# EAGLE library part MCU_STM32F070RBT6 (library akita)
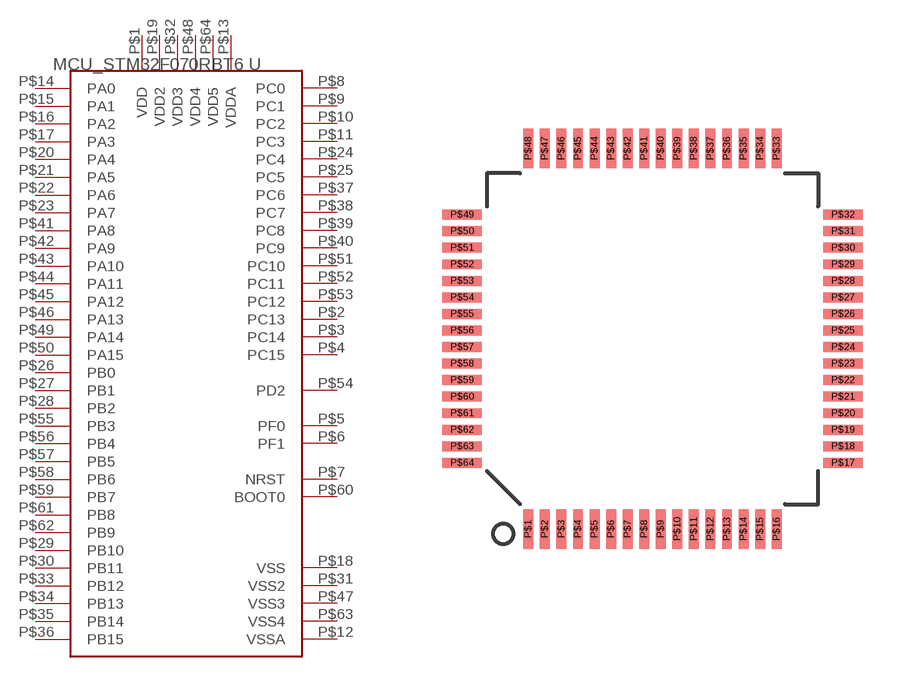
[diagram p89: symbol with the pads of LQFP64; footprint LQFP64]

Designator prefix U

## MCU_STM32F070RBT6  [LQFP64]
P$1  VDD
P$2  PC13
P$3  PC14
P$4  PC15
P$5  PF0
P$6  PF1
P$7  NRST
P$8  PC0
P$9  PC1
P$10  PC2
P$11  PC3
P$12  VSSA
P$13  VDDA
P$14  PA0
P$15  PA1
P$16  PA2
P$17  PA3
P$18  VSS
P$19  VDD2
P$20  PA4
P$21  PA5
P$22  PA6
P$23  PA7
P$24  PC4
P$25  PC5
P$26  PB0
P$27  PB1
P$28  PB2
P$29  PB10
P$30  PB11
P$31  VSS2
P$32  VDD3
P$33  PB12
P$34  PB13
P$35  PB14
P$36  PB15
P$37  PC6
P$38  PC7
P$39  PC8
P$40  PC9
P$41  PA8
P$42  PA9
P$43  PA10
P$44  PA11
P$45  PA12
P$46  PA13
P$47  VSS3
P$48  VDD4
P$49  PA14
P$50  PA15
P$51  PC10
P$52  PC11
P$53  PC12
P$54  PD2
P$55  PB3
P$56  PB4
P$57  PB5
P$58  PB6
P$59  PB7
P$60  BOOT0
P$61  PB8
P$62  PB9
P$63  VSS4
P$64  VDD5

## Footprint LQFP64 (pad centres in mm)
LQFP64 / pitch=0.5mm
smd 0.3 x 1.2: P$1 -3.75,-5.75; P$2 -3.25,-5.75; P$3 -2.75,-5.75; P$4 -2.25,-5.75; P$5 -1.75,-5.75; P$6 -1.25,-5.75; P$7 -0.75,-5.75; P$8 -0.25,-5.75; P$9 0.25,-5.75; P$10 0.75,-5.75; P$11 1.25,-5.75; P$12 1.75,-5.75; P$13 2.25,-5.75; P$14 2.75,-5.75; P$15 3.25,-5.75; P$16 3.75,-5.75; P$33 3.75,5.75; P$34 3.25,5.75; P$35 2.75,5.75; P$36 2.25,5.75; P$37 1.75,5.75; P$38 1.25,5.75; P$39 0.75,5.75; P$40 0.25,5.75; P$41 -0.25,5.75; P$42 -0.75,5.75; P$43 -1.25,5.75; P$44 -1.75,5.75; P$45 -2.25,5.75; P$46 -2.75,5.75; P$47 -3.25,5.75; P$48 -3.75,5.75
smd 1.2 x 0.3: P$17 5.75,-3.75; P$18 5.75,-3.25; P$19 5.75,-2.75; P$20 5.75,-2.25; P$21 5.75,-1.75; P$22 5.75,-1.25; P$23 5.75,-0.75; P$24 5.75,-0.25; P$25 5.75,0.25; P$26 5.75,0.75; P$27 5.75,1.25; P$28 5.75,1.75; P$29 5.75,2.25; P$30 5.75,2.75; P$31 5.75,3.25; P$32 5.75,3.75; P$49 -5.75,3.75; P$50 -5.75,3.25; P$51 -5.75,2.75; P$52 -5.75,2.25; P$53 -5.75,1.75; P$54 -5.75,1.25; P$55 -5.75,0.75; P$56 -5.75,0.25; P$57 -5.75,-0.25; P$58 -5.75,-0.75; P$59 -5.75,-1.25; P$60 -5.75,-1.75; P$61 -5.75,-2.25; P$62 -5.75,-2.75; P$63 -5.75,-3.25; P$64 -5.75,-3.75